# Altium footprint library conn_4pin.PcbLib: 1 footprints
Each footprint in its own frame and in the unit in brackets; x right, y up, seen from the top. Pads: shape width x height; smd on the part's side, far side on the other; paste and mask are expansions set on the pad; w line width, h text height; cw(c..) or ccw(c..) is an arc to the next point about the centre after c.
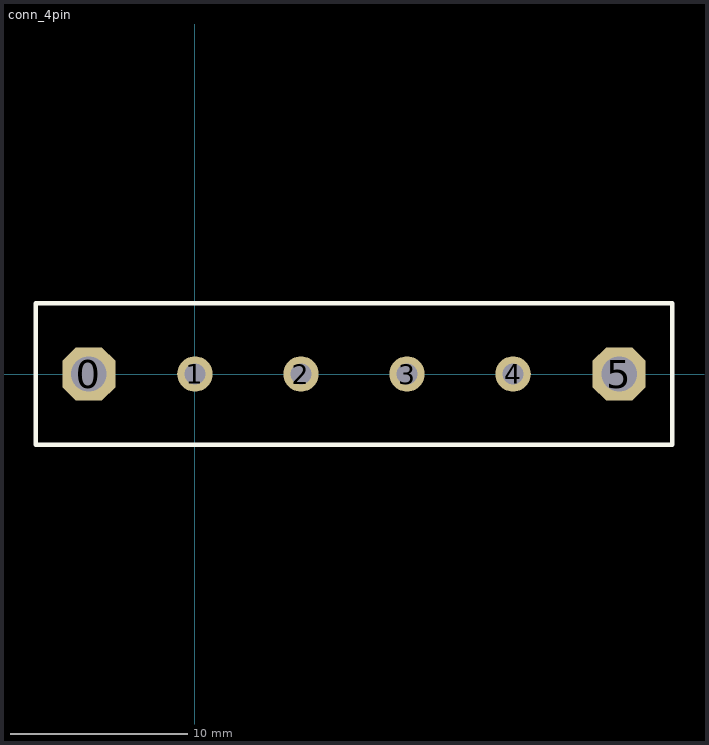
[diagram p0: the footprint, top view; thin cyan lines are the x and y axes]

## conn_4pin [mm]
pads (6):
  oct 3x3 hole 2: 0(-6,0) 5(24,0)
  round 2 hole 1.2: 1(0,0) 2(6,0) 3(12,0) 4(18,0)
Top Overlay:
  lines w0.254: -9,-4 27,-4 27,4 -9,4 -9,-4